# Altium schematic symbol library Project_schlib.SchLib: 21 symbols
Pins are listed as number, name and electrical type; pins without a type are passive.

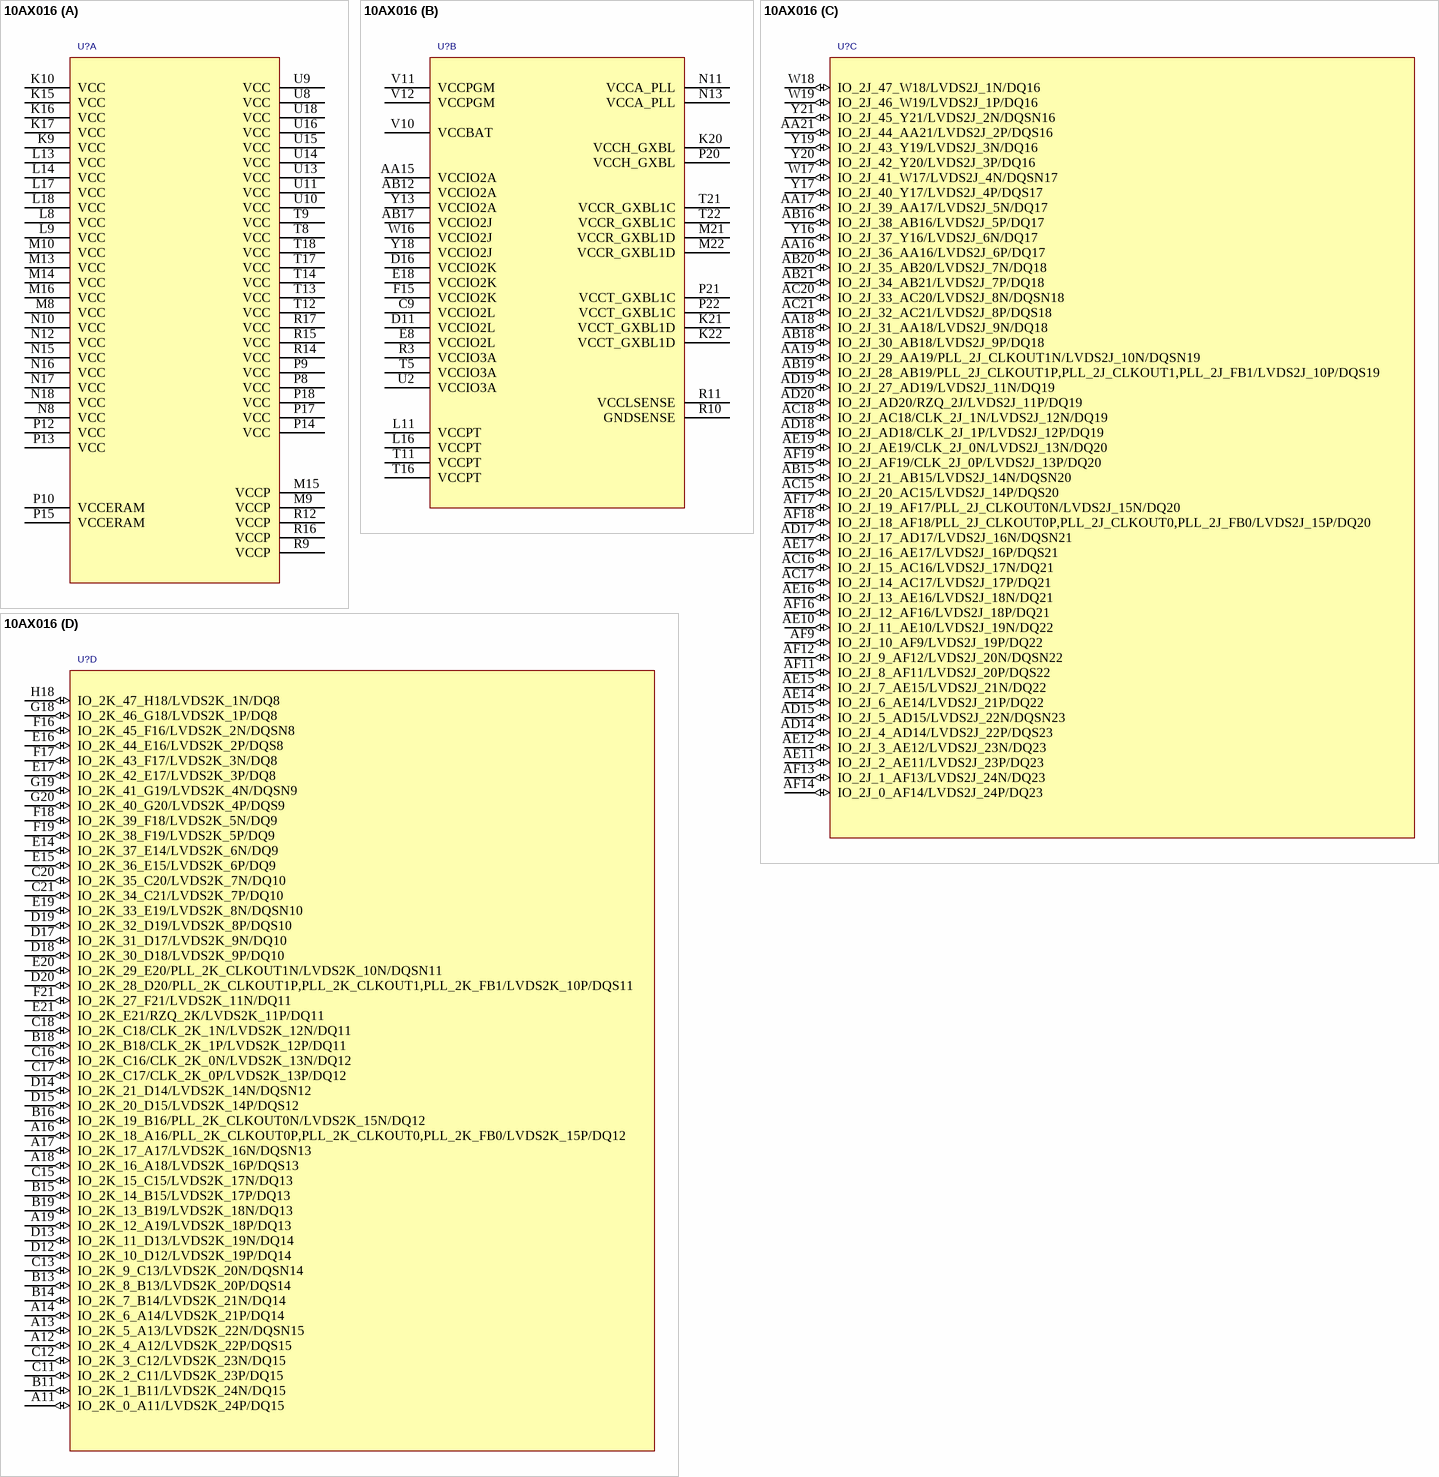
[diagram p0: symbol 10AX016]

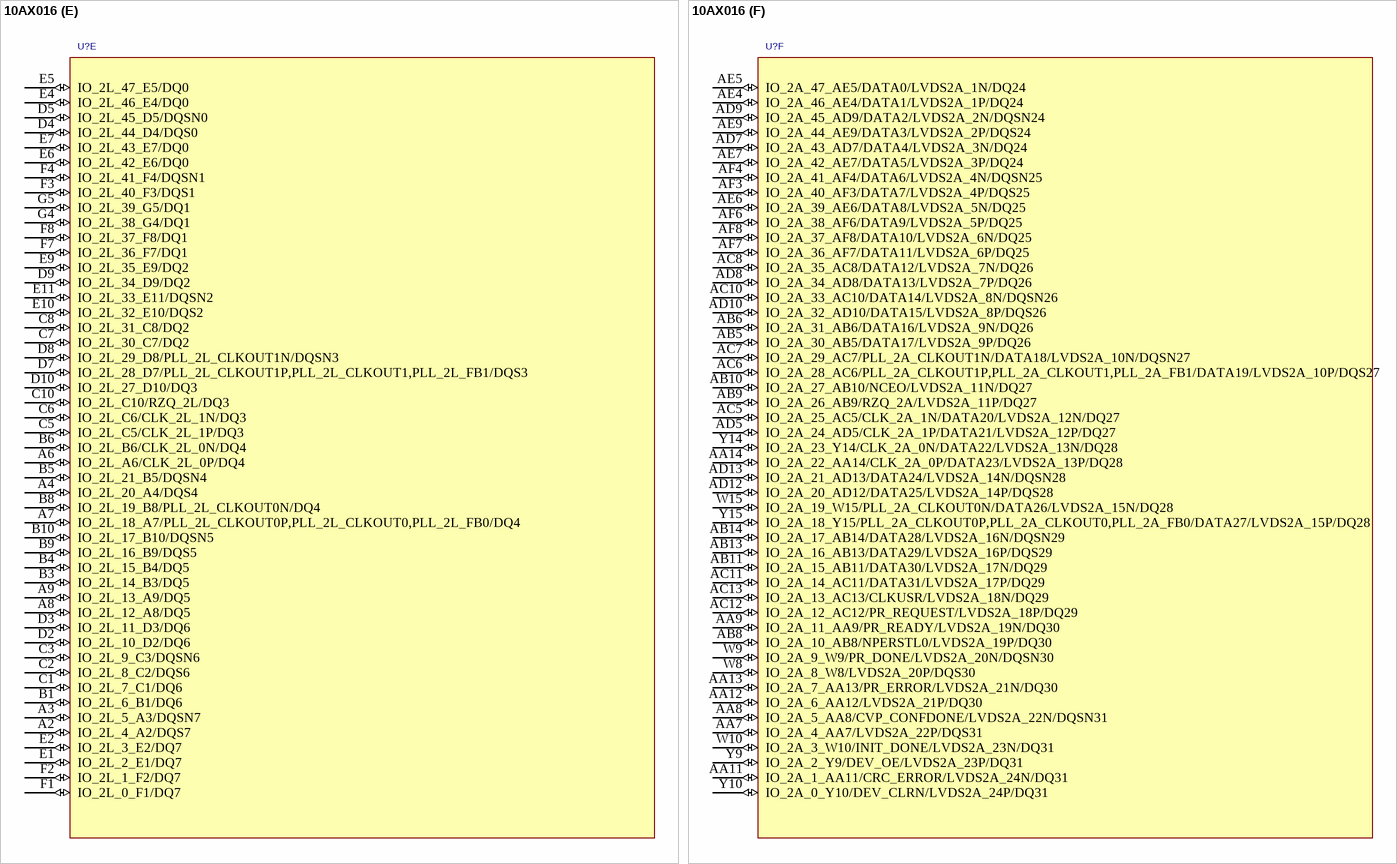
[diagram p1: symbol 10AX016]

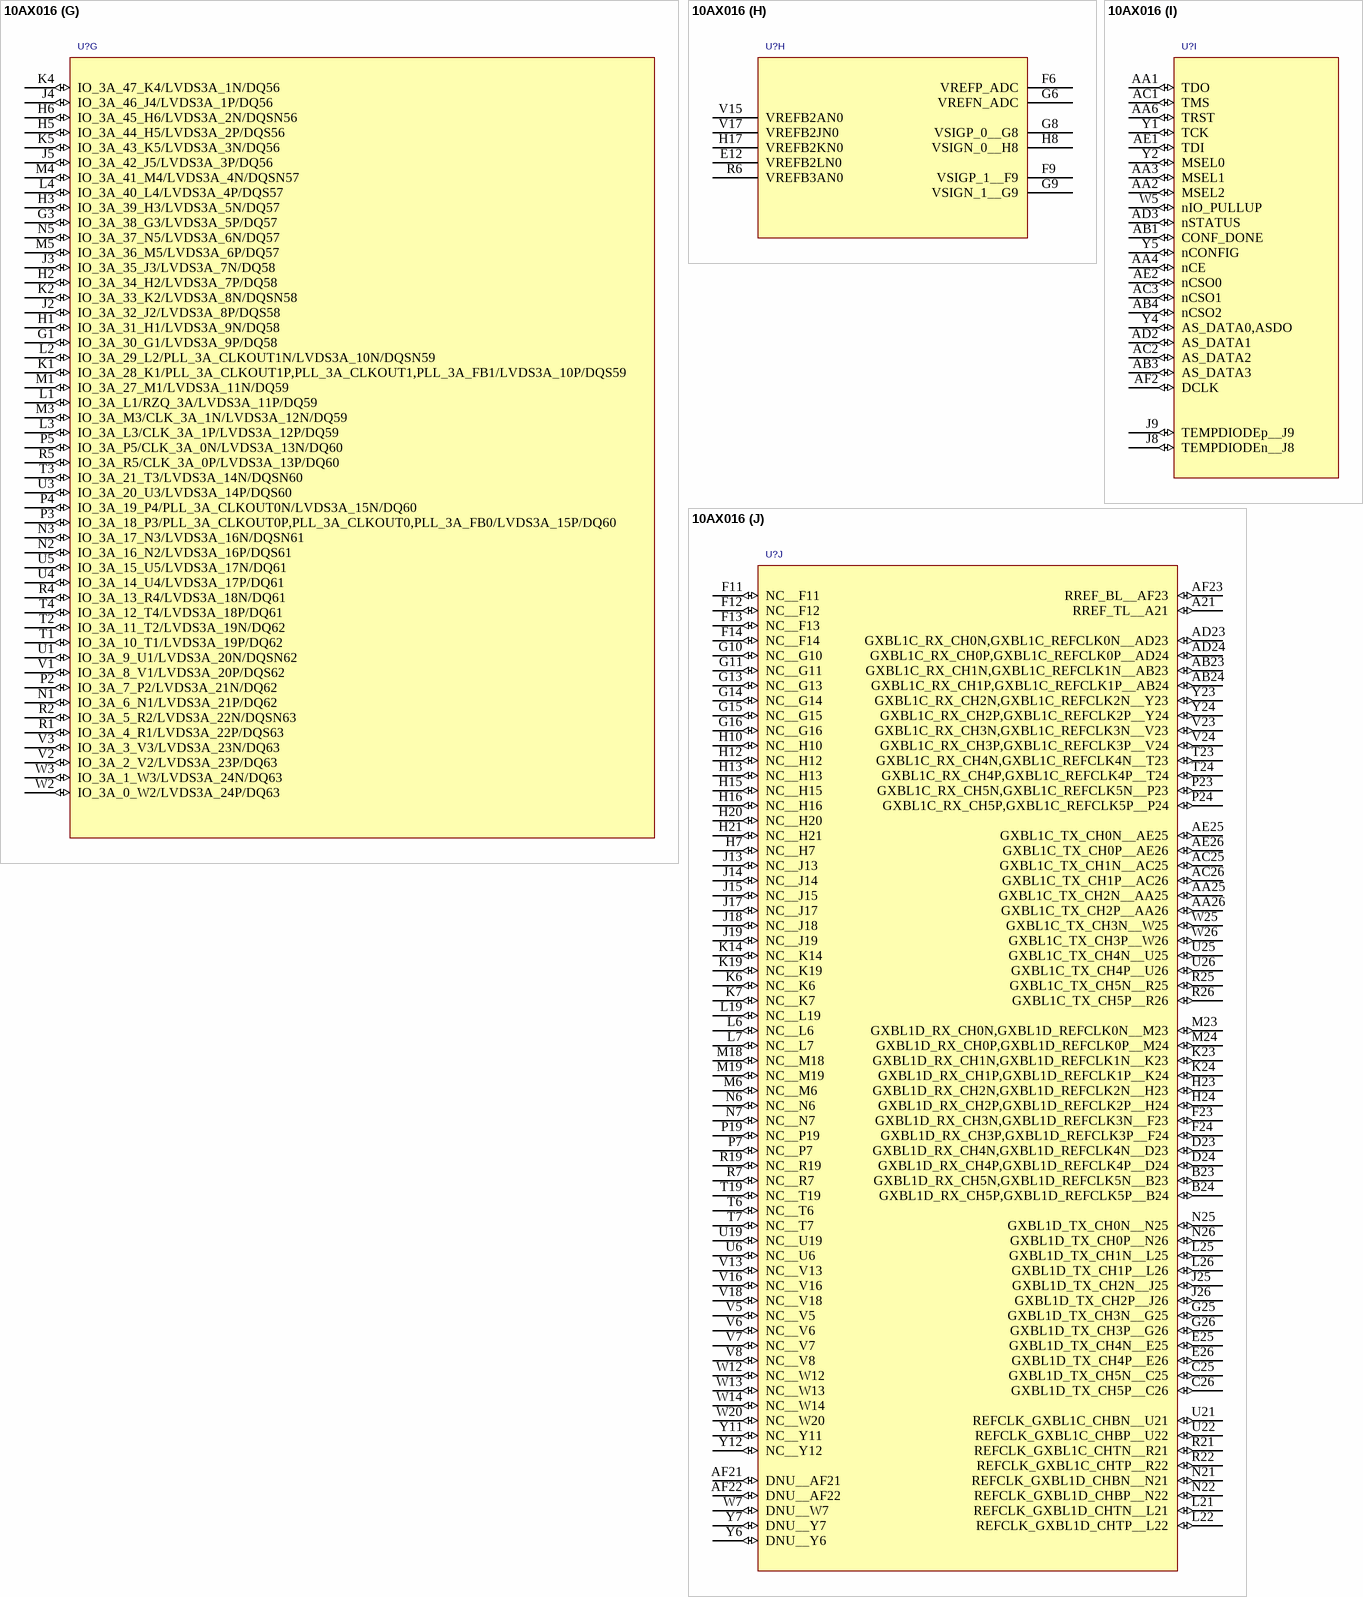
[diagram p2: symbol 10AX016]

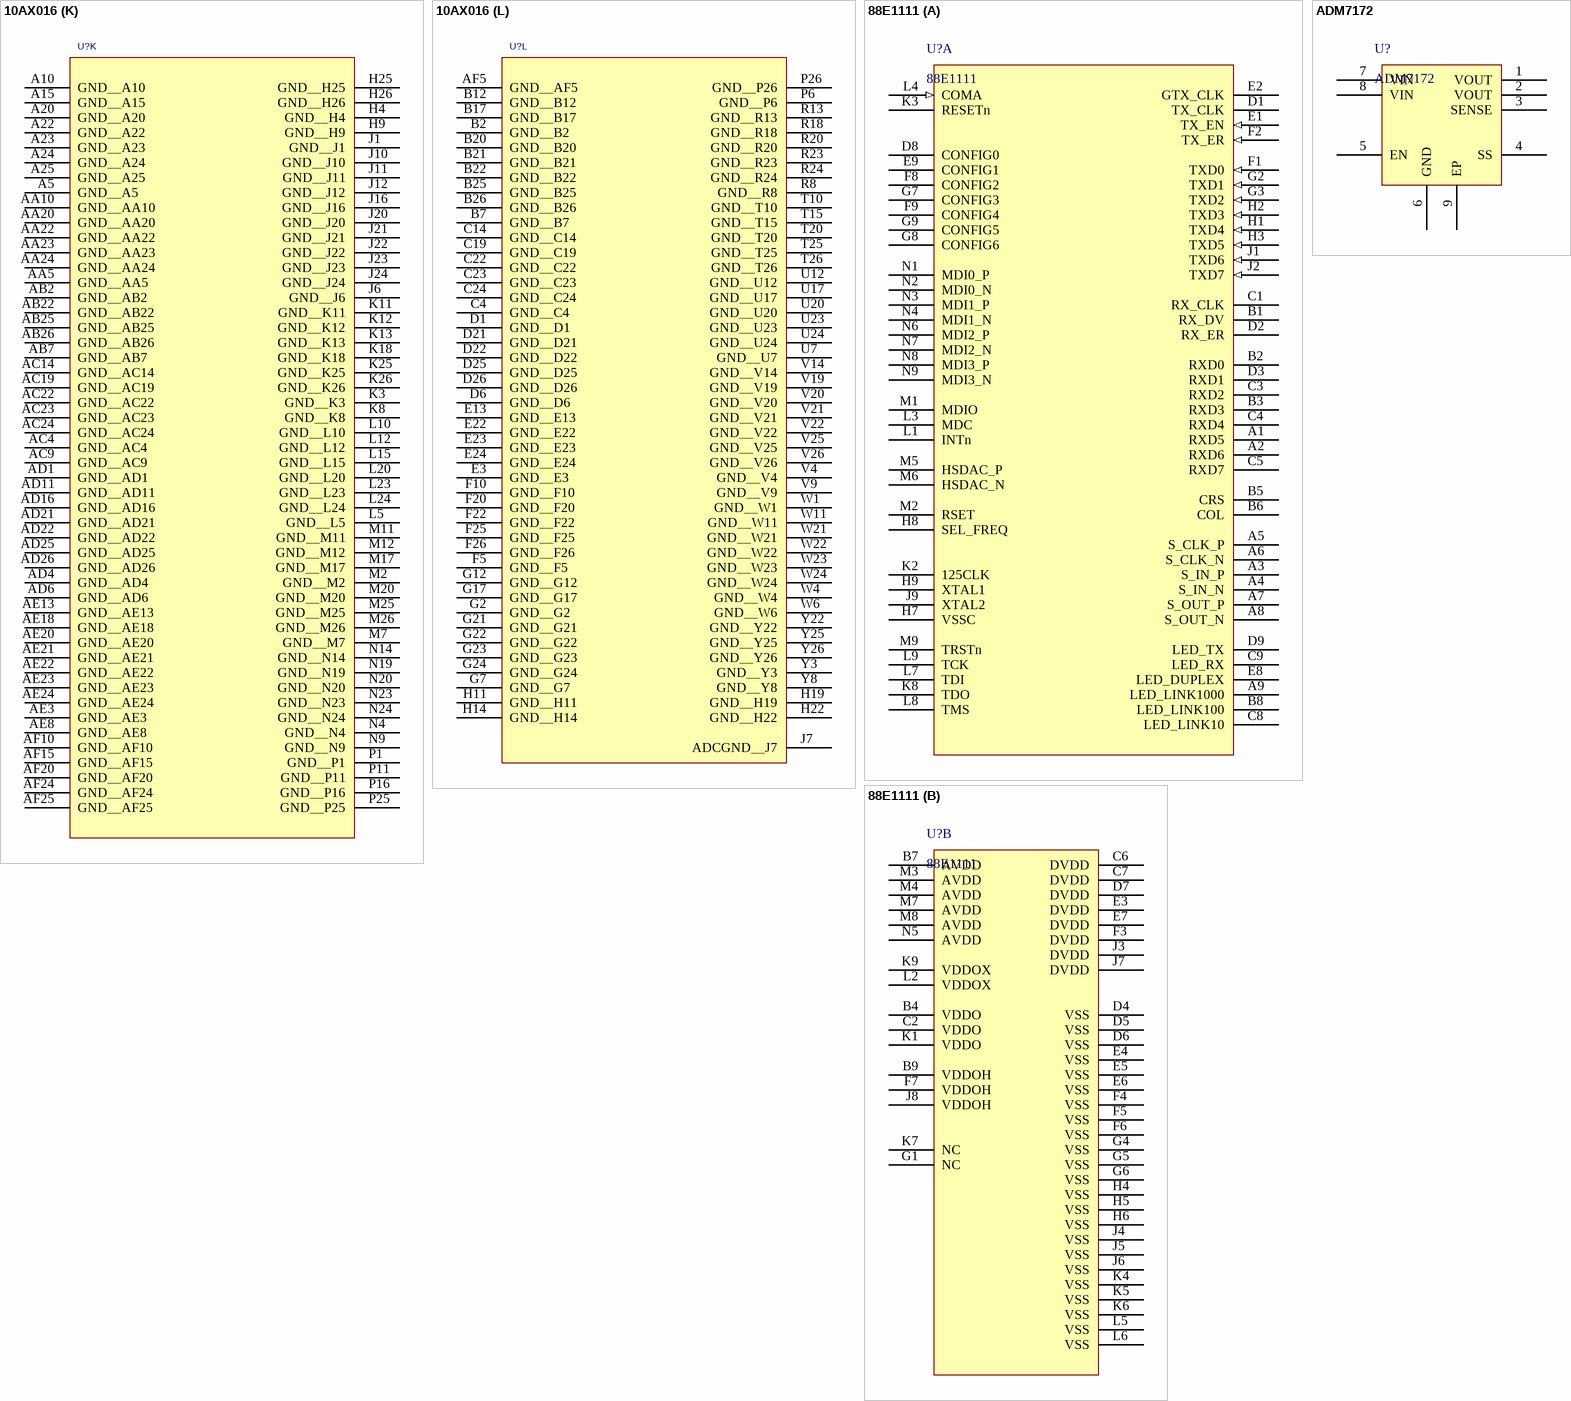
[diagram p3: symbols 10AX016 to ADM7172]

## 10AX016
designator U?, comment 10AX016 F27  (value not drawn)
Value: 10AX016 F27; Manufacturer Part Num: *
footprint FBGA672
part A pins: K9 VCC (power), K10 VCC (power), K15 VCC (power), K16 VCC (power), K17 VCC (power), L8 VCC (power), L9 VCC (power), L13 VCC (power), L14 VCC (power), L17 VCC (power), L18 VCC (power), M8 VCC (power), M9 VCCP (power), M10 VCC (power), M13 VCC (power), M14 VCC (power), M15 VCCP (power), M16 VCC (power), N8 VCC (power), N10 VCC (power), N12 VCC (power), N15 VCC (power), N16 VCC (power), N17 VCC (power), N18 VCC (power), P8 VCC (power), P9 VCC (power), P10 VCCERAM (power), P12 VCC (power), P13 VCC (power), P14 VCC (power), P15 VCCERAM (power), P17 VCC (power), P18 VCC (power), R9 VCCP (power), R12 VCCP (power), R14 VCC (power), R15 VCC (power), R16 VCCP (power), R17 VCC (power), T8 VCC (power), T9 VCC (power), T12 VCC (power), T13 VCC (power), T14 VCC (power), T17 VCC (power), T18 VCC (power), U8 VCC (power), U9 VCC (power), U10 VCC (power), U11 VCC (power), U13 VCC (power), U14 VCC (power), U15 VCC (power), U16 VCC (power), U18 VCC (power)
part B pins: AA15 VCCIO2A (power), AB12 VCCIO2A (power), AB17 VCCIO2J (power), C9 VCCIO2L (power), D11 VCCIO2L (power), D16 VCCIO2K (power), E8 VCCIO2L (power), E18 VCCIO2K (power), F15 VCCIO2K (power), K20 VCCH_GXBL (power), K21 VCCT_GXBL1D (power), K22 VCCT_GXBL1D (power), L11 VCCPT (power), L16 VCCPT (power), M21 VCCR_GXBL1D (power), M22 VCCR_GXBL1D (power), N11 VCCA_PLL (power), N13 VCCA_PLL (power), P20 VCCH_GXBL (power), P21 VCCT_GXBL1C (power), P22 VCCT_GXBL1C (power), R3 VCCIO3A (power), R10 GNDSENSE (power), R11 VCCLSENSE (power), T5 VCCIO3A (power), T11 VCCPT (power), T16 VCCPT (power), T21 VCCR_GXBL1C (power), T22 VCCR_GXBL1C (power), U2 VCCIO3A (power), V10 VCCBAT (power), V11 VCCPGM (power), V12 VCCPGM (power), W16 VCCIO2J (power), Y13 VCCIO2A (power), Y18 VCCIO2J (power)
part C pins: AA16 IO_2J_36_AA16/LVDS2J_6P/DQ17 (io), AA17 IO_2J_39_AA17/LVDS2J_5N/DQ17 (io), AA18 IO_2J_31_AA18/LVDS2J_9N/DQ18 (io), AA19 IO_2J_29_AA19/PLL_2J_CLKOUT1N/LVDS2J_10N/DQSN19 (io), AA21 IO_2J_44_AA21/LVDS2J_2P/DQS16 (io), AB15 IO_2J_21_AB15/LVDS2J_14N/DQSN20 (io), AB16 IO_2J_38_AB16/LVDS2J_5P/DQ17 (io), AB18 IO_2J_30_AB18/LVDS2J_9P/DQ18 (io), AB19 IO_2J_28_AB19/PLL_2J_CLKOUT1P,PLL_2J_CLKOUT1,PLL_2J_FB1/LVDS2J_10P/DQS19 (io), AB20 IO_2J_35_AB20/LVDS2J_7N/DQ18 (io), AB21 IO_2J_34_AB21/LVDS2J_7P/DQ18 (io), AC15 IO_2J_20_AC15/LVDS2J_14P/DQS20 (io), AC16 IO_2J_15_AC16/LVDS2J_17N/DQ21 (io), AC17 IO_2J_14_AC17/LVDS2J_17P/DQ21 (io), AC18 IO_2J_AC18/CLK_2J_1N/LVDS2J_12N/DQ19 (io), AC20 IO_2J_33_AC20/LVDS2J_8N/DQSN18 (io), AC21 IO_2J_32_AC21/LVDS2J_8P/DQS18 (io), AD14 IO_2J_4_AD14/LVDS2J_22P/DQS23 (io), AD15 IO_2J_5_AD15/LVDS2J_22N/DQSN23 (io), AD17 IO_2J_17_AD17/LVDS2J_16N/DQSN21 (io), AD18 IO_2J_AD18/CLK_2J_1P/LVDS2J_12P/DQ19 (io), AD19 IO_2J_27_AD19/LVDS2J_11N/DQ19 (io), AD20 IO_2J_AD20/RZQ_2J/LVDS2J_11P/DQ19 (io), AE10 IO_2J_11_AE10/LVDS2J_19N/DQ22 (io), AE11 IO_2J_2_AE11/LVDS2J_23P/DQ23 (io), AE12 IO_2J_3_AE12/LVDS2J_23N/DQ23 (io), AE14 IO_2J_6_AE14/LVDS2J_21P/DQ22 (io), AE15 IO_2J_7_AE15/LVDS2J_21N/DQ22 (io), AE16 IO_2J_13_AE16/LVDS2J_18N/DQ21 (io), AE17 IO_2J_16_AE17/LVDS2J_16P/DQS21 (io), AE19 IO_2J_AE19/CLK_2J_0N/LVDS2J_13N/DQ20 (io), AF9 IO_2J_10_AF9/LVDS2J_19P/DQ22 (io), AF11 IO_2J_8_AF11/LVDS2J_20P/DQS22 (io), AF12 IO_2J_9_AF12/LVDS2J_20N/DQSN22 (io), AF13 IO_2J_1_AF13/LVDS2J_24N/DQ23 (io), AF14 IO_2J_0_AF14/LVDS2J_24P/DQ23 (io), AF16 IO_2J_12_AF16/LVDS2J_18P/DQ21 (io), AF17 IO_2J_19_AF17/PLL_2J_CLKOUT0N/LVDS2J_15N/DQ20 (io), AF18 IO_2J_18_AF18/PLL_2J_CLKOUT0P,PLL_2J_CLKOUT0,PLL_2J_FB0/LVDS2J_15P/DQ20 (io), AF19 IO_2J_AF19/CLK_2J_0P/LVDS2J_13P/DQ20 (io), W17 IO_2J_41_W17/LVDS2J_4N/DQSN17 (io), W18 IO_2J_47_W18/LVDS2J_1N/DQ16 (io), W19 IO_2J_46_W19/LVDS2J_1P/DQ16 (io), Y16 IO_2J_37_Y16/LVDS2J_6N/DQ17 (io), Y17 IO_2J_40_Y17/LVDS2J_4P/DQS17 (io), Y19 IO_2J_43_Y19/LVDS2J_3N/DQ16 (io), Y20 IO_2J_42_Y20/LVDS2J_3P/DQ16 (io), Y21 IO_2J_45_Y21/LVDS2J_2N/DQSN16 (io)
part D pins: A11 IO_2K_0_A11/LVDS2K_24P/DQ15 (io), A12 IO_2K_4_A12/LVDS2K_22P/DQS15 (io), A13 IO_2K_5_A13/LVDS2K_22N/DQSN15 (io), A14 IO_2K_6_A14/LVDS2K_21P/DQ14 (io), A16 IO_2K_18_A16/PLL_2K_CLKOUT0P,PLL_2K_CLKOUT0,PLL_2K_FB0/LVDS2K_15P/DQ12 (io), A17 IO_2K_17_A17/LVDS2K_16N/DQSN13 (io), A18 IO_2K_16_A18/LVDS2K_16P/DQS13 (io), A19 IO_2K_12_A19/LVDS2K_18P/DQ13 (io), B11 IO_2K_1_B11/LVDS2K_24N/DQ15 (io), B13 IO_2K_8_B13/LVDS2K_20P/DQS14 (io), B14 IO_2K_7_B14/LVDS2K_21N/DQ14 (io), B15 IO_2K_14_B15/LVDS2K_17P/DQ13 (io), B16 IO_2K_19_B16/PLL_2K_CLKOUT0N/LVDS2K_15N/DQ12 (io), B18 IO_2K_B18/CLK_2K_1P/LVDS2K_12P/DQ11 (io), B19 IO_2K_13_B19/LVDS2K_18N/DQ13 (io), C11 IO_2K_2_C11/LVDS2K_23P/DQ15 (io), C12 IO_2K_3_C12/LVDS2K_23N/DQ15 (io), C13 IO_2K_9_C13/LVDS2K_20N/DQSN14 (io), C15 IO_2K_15_C15/LVDS2K_17N/DQ13 (io), C16 IO_2K_C16/CLK_2K_0N/LVDS2K_13N/DQ12 (io), C17 IO_2K_C17/CLK_2K_0P/LVDS2K_13P/DQ12 (io), C18 IO_2K_C18/CLK_2K_1N/LVDS2K_12N/DQ11 (io), C20 IO_2K_35_C20/LVDS2K_7N/DQ10 (io), C21 IO_2K_34_C21/LVDS2K_7P/DQ10 (io), D12 IO_2K_10_D12/LVDS2K_19P/DQ14 (io), D13 IO_2K_11_D13/LVDS2K_19N/DQ14 (io), D14 IO_2K_21_D14/LVDS2K_14N/DQSN12 (io), D15 IO_2K_20_D15/LVDS2K_14P/DQS12 (io), D17 IO_2K_31_D17/LVDS2K_9N/DQ10 (io), D18 IO_2K_30_D18/LVDS2K_9P/DQ10 (io), D19 IO_2K_32_D19/LVDS2K_8P/DQS10 (io), D20 IO_2K_28_D20/PLL_2K_CLKOUT1P,PLL_2K_CLKOUT1,PLL_2K_FB1/LVDS2K_10P/DQS11 (io), E14 IO_2K_37_E14/LVDS2K_6N/DQ9 (io), E15 IO_2K_36_E15/LVDS2K_6P/DQ9 (io), E16 IO_2K_44_E16/LVDS2K_2P/DQS8 (io), E17 IO_2K_42_E17/LVDS2K_3P/DQ8 (io), E19 IO_2K_33_E19/LVDS2K_8N/DQSN10 (io), E20 IO_2K_29_E20/PLL_2K_CLKOUT1N/LVDS2K_10N/DQSN11 (io), E21 IO_2K_E21/RZQ_2K/LVDS2K_11P/DQ11 (io), F16 IO_2K_45_F16/LVDS2K_2N/DQSN8 (io), F17 IO_2K_43_F17/LVDS2K_3N/DQ8 (io), F18 IO_2K_39_F18/LVDS2K_5N/DQ9 (io), F19 IO_2K_38_F19/LVDS2K_5P/DQ9 (io), F21 IO_2K_27_F21/LVDS2K_11N/DQ11 (io), G18 IO_2K_46_G18/LVDS2K_1P/DQ8 (io), G19 IO_2K_41_G19/LVDS2K_4N/DQSN9 (io), G20 IO_2K_40_G20/LVDS2K_4P/DQS9 (io), H18 IO_2K_47_H18/LVDS2K_1N/DQ8 (io)
part E pins: A2 IO_2L_4_A2/DQS7 (io), A3 IO_2L_5_A3/DQSN7 (io), A4 IO_2L_20_A4/DQS4 (io), A6 IO_2L_A6/CLK_2L_0P/DQ4 (io), A7 IO_2L_18_A7/PLL_2L_CLKOUT0P,PLL_2L_CLKOUT0,PLL_2L_FB0/DQ4 (io), A8 IO_2L_12_A8/DQ5 (io), A9 IO_2L_13_A9/DQ5 (io), B1 IO_2L_6_B1/DQ6 (io), B3 IO_2L_14_B3/DQ5 (io), B4 IO_2L_15_B4/DQ5 (io), B5 IO_2L_21_B5/DQSN4 (io), B6 IO_2L_B6/CLK_2L_0N/DQ4 (io), B8 IO_2L_19_B8/PLL_2L_CLKOUT0N/DQ4 (io), B9 IO_2L_16_B9/DQS5 (io), B10 IO_2L_17_B10/DQSN5 (io), C1 IO_2L_7_C1/DQ6 (io), C2 IO_2L_8_C2/DQS6 (io), C3 IO_2L_9_C3/DQSN6 (io), C5 IO_2L_C5/CLK_2L_1P/DQ3 (io), C6 IO_2L_C6/CLK_2L_1N/DQ3 (io), C7 IO_2L_30_C7/DQ2 (io), C8 IO_2L_31_C8/DQ2 (io), C10 IO_2L_C10/RZQ_2L/DQ3 (io), D2 IO_2L_10_D2/DQ6 (io), D3 IO_2L_11_D3/DQ6 (io), D4 IO_2L_44_D4/DQS0 (io), D5 IO_2L_45_D5/DQSN0 (io), D7 IO_2L_28_D7/PLL_2L_CLKOUT1P,PLL_2L_CLKOUT1,PLL_2L_FB1/DQS3 (io), D8 IO_2L_29_D8/PLL_2L_CLKOUT1N/DQSN3 (io), D9 IO_2L_34_D9/DQ2 (io), D10 IO_2L_27_D10/DQ3 (io), E1 IO_2L_2_E1/DQ7 (io), E2 IO_2L_3_E2/DQ7 (io), E4 IO_2L_46_E4/DQ0 (io), E5 IO_2L_47_E5/DQ0 (io), E6 IO_2L_42_E6/DQ0 (io), E7 IO_2L_43_E7/DQ0 (io), E9 IO_2L_35_E9/DQ2 (io), E10 IO_2L_32_E10/DQS2 (io), E11 IO_2L_33_E11/DQSN2 (io), F1 IO_2L_0_F1/DQ7 (io), F2 IO_2L_1_F2/DQ7 (io), F3 IO_2L_40_F3/DQS1 (io), F4 IO_2L_41_F4/DQSN1 (io), F7 IO_2L_36_F7/DQ1 (io), F8 IO_2L_37_F8/DQ1 (io), G4 IO_2L_38_G4/DQ1 (io), G5 IO_2L_39_G5/DQ1 (io)
part F pins: AA7 IO_2A_4_AA7/LVDS2A_22P/DQS31 (io), AA8 IO_2A_5_AA8/CVP_CONFDONE/LVDS2A_22N/DQSN31 (io), AA9 IO_2A_11_AA9/PR_READY/LVDS2A_19N/DQ30 (io), AA11 IO_2A_1_AA11/CRC_ERROR/LVDS2A_24N/DQ31 (io), AA12 IO_2A_6_AA12/LVDS2A_21P/DQ30 (io), AA13 IO_2A_7_AA13/PR_ERROR/LVDS2A_21N/DQ30 (io), AA14 IO_2A_22_AA14/CLK_2A_0P/DATA23/LVDS2A_13P/DQ28 (io), AB5 IO_2A_30_AB5/DATA17/LVDS2A_9P/DQ26 (io), AB6 IO_2A_31_AB6/DATA16/LVDS2A_9N/DQ26 (io), AB8 IO_2A_10_AB8/NPERSTL0/LVDS2A_19P/DQ30 (io), AB9 IO_2A_26_AB9/RZQ_2A/LVDS2A_11P/DQ27 (io), AB10 IO_2A_27_AB10/NCEO/LVDS2A_11N/DQ27 (io), AB11 IO_2A_15_AB11/DATA30/LVDS2A_17N/DQ29 (io), AB13 IO_2A_16_AB13/DATA29/LVDS2A_16P/DQS29 (io), AB14 IO_2A_17_AB14/DATA28/LVDS2A_16N/DQSN29 (io), AC5 IO_2A_25_AC5/CLK_2A_1N/DATA20/LVDS2A_12N/DQ27 (io), AC6 IO_2A_28_AC6/PLL_2A_CLKOUT1P,PLL_2A_CLKOUT1,PLL_2A_FB1/DATA19/LVDS2A_10P/DQS27 (io), AC7 IO_2A_29_AC7/PLL_2A_CLKOUT1N/DATA18/LVDS2A_10N/DQSN27 (io), AC8 IO_2A_35_AC8/DATA12/LVDS2A_7N/DQ26 (io), AC10 IO_2A_33_AC10/DATA14/LVDS2A_8N/DQSN26 (io), AC11 IO_2A_14_AC11/DATA31/LVDS2A_17P/DQ29 (io), AC12 IO_2A_12_AC12/PR_REQUEST/LVDS2A_18P/DQ29 (io), AC13 IO_2A_13_AC13/CLKUSR/LVDS2A_18N/DQ29 (io), AD5 IO_2A_24_AD5/CLK_2A_1P/DATA21/LVDS2A_12P/DQ27 (io), AD7 IO_2A_43_AD7/DATA4/LVDS2A_3N/DQ24 (io), AD8 IO_2A_34_AD8/DATA13/LVDS2A_7P/DQ26 (io), AD9 IO_2A_45_AD9/DATA2/LVDS2A_2N/DQSN24 (io), AD10 IO_2A_32_AD10/DATA15/LVDS2A_8P/DQS26 (io), AD12 IO_2A_20_AD12/DATA25/LVDS2A_14P/DQS28 (io), AD13 IO_2A_21_AD13/DATA24/LVDS2A_14N/DQSN28 (io), AE4 IO_2A_46_AE4/DATA1/LVDS2A_1P/DQ24 (io), AE5 IO_2A_47_AE5/DATA0/LVDS2A_1N/DQ24 (io), AE6 IO_2A_39_AE6/DATA8/LVDS2A_5N/DQ25 (io), AE7 IO_2A_42_AE7/DATA5/LVDS2A_3P/DQ24 (io), AE9 IO_2A_44_AE9/DATA3/LVDS2A_2P/DQS24 (io), AF3 IO_2A_40_AF3/DATA7/LVDS2A_4P/DQS25 (io), AF4 IO_2A_41_AF4/DATA6/LVDS2A_4N/DQSN25 (io), AF6 IO_2A_38_AF6/DATA9/LVDS2A_5P/DQ25 (io), AF7 IO_2A_36_AF7/DATA11/LVDS2A_6P/DQ25 (io), AF8 IO_2A_37_AF8/DATA10/LVDS2A_6N/DQ25 (io), W8 IO_2A_8_W8/LVDS2A_20P/DQS30 (io), W9 IO_2A_9_W9/PR_DONE/LVDS2A_20N/DQSN30 (io), W10 IO_2A_3_W10/INIT_DONE/LVDS2A_23N/DQ31 (io), W15 IO_2A_19_W15/PLL_2A_CLKOUT0N/DATA26/LVDS2A_15N/DQ28 (io), Y9 IO_2A_2_Y9/DEV_OE/LVDS2A_23P/DQ31 (io), Y10 IO_2A_0_Y10/DEV_CLRN/LVDS2A_24P/DQ31 (io), Y14 IO_2A_23_Y14/CLK_2A_0N/DATA22/LVDS2A_13N/DQ28 (io), Y15 IO_2A_18_Y15/PLL_2A_CLKOUT0P,PLL_2A_CLKOUT0,PLL_2A_FB0/DATA27/LVDS2A_15P/DQ28 (io)
part G pins: G1 IO_3A_30_G1/LVDS3A_9P/DQ58 (io), G3 IO_3A_38_G3/LVDS3A_5P/DQ57 (io), H1 IO_3A_31_H1/LVDS3A_9N/DQ58 (io), H2 IO_3A_34_H2/LVDS3A_7P/DQ58 (io), H3 IO_3A_39_H3/LVDS3A_5N/DQ57 (io), H5 IO_3A_44_H5/LVDS3A_2P/DQS56 (io), H6 IO_3A_45_H6/LVDS3A_2N/DQSN56 (io), J2 IO_3A_32_J2/LVDS3A_8P/DQS58 (io), J3 IO_3A_35_J3/LVDS3A_7N/DQ58 (io), J4 IO_3A_46_J4/LVDS3A_1P/DQ56 (io), J5 IO_3A_42_J5/LVDS3A_3P/DQ56 (io), K1 IO_3A_28_K1/PLL_3A_CLKOUT1P,PLL_3A_CLKOUT1,PLL_3A_FB1/LVDS3A_10P/DQS59 (io), K2 IO_3A_33_K2/LVDS3A_8N/DQSN58 (io), K4 IO_3A_47_K4/LVDS3A_1N/DQ56 (io), K5 IO_3A_43_K5/LVDS3A_3N/DQ56 (io), L1 IO_3A_L1/RZQ_3A/LVDS3A_11P/DQ59 (io), L2 IO_3A_29_L2/PLL_3A_CLKOUT1N/LVDS3A_10N/DQSN59 (io), L3 IO_3A_L3/CLK_3A_1P/LVDS3A_12P/DQ59 (io), L4 IO_3A_40_L4/LVDS3A_4P/DQS57 (io), M1 IO_3A_27_M1/LVDS3A_11N/DQ59 (io), M3 IO_3A_M3/CLK_3A_1N/LVDS3A_12N/DQ59 (io), M4 IO_3A_41_M4/LVDS3A_4N/DQSN57 (io), M5 IO_3A_36_M5/LVDS3A_6P/DQ57 (io), N1 IO_3A_6_N1/LVDS3A_21P/DQ62 (io), N2 IO_3A_16_N2/LVDS3A_16P/DQS61 (io), N3 IO_3A_17_N3/LVDS3A_16N/DQSN61 (io), N5 IO_3A_37_N5/LVDS3A_6N/DQ57 (io), P2 IO_3A_7_P2/LVDS3A_21N/DQ62 (io), P3 IO_3A_18_P3/PLL_3A_CLKOUT0P,PLL_3A_CLKOUT0,PLL_3A_FB0/LVDS3A_15P/DQ60 (io), P4 IO_3A_19_P4/PLL_3A_CLKOUT0N/LVDS3A_15N/DQ60 (io), P5 IO_3A_P5/CLK_3A_0N/LVDS3A_13N/DQ60 (io), R1 IO_3A_4_R1/LVDS3A_22P/DQS63 (io), R2 IO_3A_5_R2/LVDS3A_22N/DQSN63 (io), R4 IO_3A_13_R4/LVDS3A_18N/DQ61 (io), R5 IO_3A_R5/CLK_3A_0P/LVDS3A_13P/DQ60 (io), T1 IO_3A_10_T1/LVDS3A_19P/DQ62 (io), T2 IO_3A_11_T2/LVDS3A_19N/DQ62 (io), T3 IO_3A_21_T3/LVDS3A_14N/DQSN60 (io), T4 IO_3A_12_T4/LVDS3A_18P/DQ61 (io), U1 IO_3A_9_U1/LVDS3A_20N/DQSN62 (io), U3 IO_3A_20_U3/LVDS3A_14P/DQS60 (io), U4 IO_3A_14_U4/LVDS3A_17P/DQ61 (io), U5 IO_3A_15_U5/LVDS3A_17N/DQ61 (io), V1 IO_3A_8_V1/LVDS3A_20P/DQS62 (io), V2 IO_3A_2_V2/LVDS3A_23P/DQ63 (io), V3 IO_3A_3_V3/LVDS3A_23N/DQ63 (io), W2 IO_3A_0_W2/LVDS3A_24P/DQ63 (io), W3 IO_3A_1_W3/LVDS3A_24N/DQ63 (io)
part H pins: E12 VREFB2LN0 (power), F6 VREFP_ADC (power), F9 VSIGP_1__F9, G6 VREFN_ADC (power), G8 VSIGP_0__G8, G9 VSIGN_1__G9, H8 VSIGN_0__H8, H17 VREFB2KN0 (power), R6 VREFB3AN0 (power), V15 VREFB2AN0 (power), V17 VREFB2JN0 (power)
part I pins: AA1 TDO (io), AA2 MSEL2 (io), AA3 MSEL1 (io), AA4 nCE (io), AA6 TRST (io), AB1 CONF_DONE (io), AB3 AS_DATA3 (io), AB4 nCSO2 (io), AC1 TMS (io), AC2 AS_DATA2 (io), AC3 nCSO1 (io), AD2 AS_DATA1 (io), AD3 nSTATUS (io), AE1 TDI (io), AE2 nCSO0 (io), AF2 DCLK (io), J8 TEMPDIODEn__J8 (io), J9 TEMPDIODEp__J9 (io), W5 nIO_PULLUP (io), Y1 TCK (io), Y2 MSEL0 (io), Y4 AS_DATA0,ASDO (io), Y5 nCONFIG (io)
part J pins: A21 RREF_TL__A21 (io), AA25 GXBL1C_TX_CH2N__AA25 (io), AA26 GXBL1C_TX_CH2P__AA26 (io), AB23 GXBL1C_RX_CH1N,GXBL1C_REFCLK1N__AB23 (io), AB24 GXBL1C_RX_CH1P,GXBL1C_REFCLK1P__AB24 (io), AC25 GXBL1C_TX_CH1N__AC25 (io), AC26 GXBL1C_TX_CH1P__AC26 (io), AD23 GXBL1C_RX_CH0N,GXBL1C_REFCLK0N__AD23 (io), AD24 GXBL1C_RX_CH0P,GXBL1C_REFCLK0P__AD24 (io), AE25 GXBL1C_TX_CH0N__AE25 (io), AE26 GXBL1C_TX_CH0P__AE26 (io), AF21 DNU__AF21 (io), AF22 DNU__AF22 (io), AF23 RREF_BL__AF23 (io), B23 GXBL1D_RX_CH5N,GXBL1D_REFCLK5N__B23 (io), B24 GXBL1D_RX_CH5P,GXBL1D_REFCLK5P__B24 (io), C25 GXBL1D_TX_CH5N__C25 (io), C26 GXBL1D_TX_CH5P__C26 (io), D23 GXBL1D_RX_CH4N,GXBL1D_REFCLK4N__D23 (io), D24 GXBL1D_RX_CH4P,GXBL1D_REFCLK4P__D24 (io), E25 GXBL1D_TX_CH4N__E25 (io), E26 GXBL1D_TX_CH4P__E26 (io), F11 NC__F11 (io), F12 NC__F12 (io), F13 NC__F13 (io), F14 NC__F14 (io), F23 GXBL1D_RX_CH3N,GXBL1D_REFCLK3N__F23 (io), F24 GXBL1D_RX_CH3P,GXBL1D_REFCLK3P__F24 (io), G10 NC__G10 (io), G11 NC__G11 (io), G13 NC__G13 (io), G14 NC__G14 (io), G15 NC__G15 (io), G16 NC__G16 (io), G25 GXBL1D_TX_CH3N__G25 (io), G26 GXBL1D_TX_CH3P__G26 (io), H7 NC__H7 (io), H10 NC__H10 (io), H12 NC__H12 (io), H13 NC__H13 (io), H15 NC__H15 (io), H16 NC__H16 (io), H20 NC__H20 (io), H21 NC__H21 (io), H23 GXBL1D_RX_CH2N,GXBL1D_REFCLK2N__H23 (io), H24 GXBL1D_RX_CH2P,GXBL1D_REFCLK2P__H24 (io), J13 NC__J13 (io), J14 NC__J14 (io), J15 NC__J15 (io), J17 NC__J17 (io), J18 NC__J18 (io), J19 NC__J19 (io), J25 GXBL1D_TX_CH2N__J25 (io), J26 GXBL1D_TX_CH2P__J26 (io), K6 NC__K6 (io), K7 NC__K7 (io), K14 NC__K14 (io), K19 NC__K19 (io), K23 GXBL1D_RX_CH1N,GXBL1D_REFCLK1N__K23 (io), K24 GXBL1D_RX_CH1P,GXBL1D_REFCLK1P__K24 (io), L6 NC__L6 (io), L7 NC__L7 (io), L19 NC__L19 (io), L21 REFCLK_GXBL1D_CHTN__L21 (io), L22 REFCLK_GXBL1D_CHTP__L22 (io), L25 GXBL1D_TX_CH1N__L25 (io), L26 GXBL1D_TX_CH1P__L26 (io), M6 NC__M6 (io), M18 NC__M18 (io), M19 NC__M19 (io), M23 GXBL1D_RX_CH0N,GXBL1D_REFCLK0N__M23 (io), M24 GXBL1D_RX_CH0P,GXBL1D_REFCLK0P__M24 (io), N6 NC__N6 (io), N7 NC__N7 (io), N21 REFCLK_GXBL1D_CHBN__N21 (io), N22 REFCLK_GXBL1D_CHBP__N22 (io), N25 GXBL1D_TX_CH0N__N25 (io), N26 GXBL1D_TX_CH0P__N26 (io), P7 NC__P7 (io), P19 NC__P19 (io), P23 GXBL1C_RX_CH5N,GXBL1C_REFCLK5N__P23 (io), P24 GXBL1C_RX_CH5P,GXBL1C_REFCLK5P__P24 (io), R7 NC__R7 (io), R19 NC__R19 (io), R21 REFCLK_GXBL1C_CHTN__R21 (io), R22 REFCLK_GXBL1C_CHTP__R22 (io), R25 GXBL1C_TX_CH5N__R25 (io), R26 GXBL1C_TX_CH5P__R26 (io), T6 NC__T6 (io), T7 NC__T7 (io), T19 NC__T19 (io), T23 GXBL1C_RX_CH4N,GXBL1C_REFCLK4N__T23 (io), T24 GXBL1C_RX_CH4P,GXBL1C_REFCLK4P__T24 (io), U6 NC__U6 (io), U19 NC__U19 (io), U21 REFCLK_GXBL1C_CHBN__U21 (io), U22 REFCLK_GXBL1C_CHBP__U22 (io), U25 GXBL1C_TX_CH4N__U25 (io), U26 GXBL1C_TX_CH4P__U26 (io), V5 NC__V5 (io), V6 NC__V6 (io), V7 NC__V7 (io), V8 NC__V8 (io), V13 NC__V13 (io), V16 NC__V16 (io), V18 NC__V18 (io), V23 GXBL1C_RX_CH3N,GXBL1C_REFCLK3N__V23 (io), V24 GXBL1C_RX_CH3P,GXBL1C_REFCLK3P__V24 (io), W7 DNU__W7 (io), W12 NC__W12 (io), W13 NC__W13 (io), W14 NC__W14 (io), W20 NC__W20 (io), W25 GXBL1C_TX_CH3N__W25 (io), W26 GXBL1C_TX_CH3P__W26 (io), Y6 DNU__Y6 (io), Y7 DNU__Y7 (io), Y11 NC__Y11 (io), Y12 NC__Y12 (io), Y23 GXBL1C_RX_CH2N,GXBL1C_REFCLK2N__Y23 (io), Y24 GXBL1C_RX_CH2P,GXBL1C_REFCLK2P__Y24 (io)
part K pins: A5 GND__A5 (power), A10 GND__A10 (power), A15 GND__A15 (power), A20 GND__A20 (power), A22 GND__A22 (power), A23 GND__A23 (power), A24 GND__A24 (power), A25 GND__A25 (power), AA5 GND__AA5 (power), AA10 GND__AA10 (power), AA20 GND__AA20 (power), AA22 GND__AA22 (power), AA23 GND__AA23 (power), AA24 GND__AA24 (power), AB2 GND__AB2 (power), AB7 GND__AB7 (power), AB22 GND__AB22 (power), AB25 GND__AB25 (power), AB26 GND__AB26 (power), AC4 GND__AC4 (power), AC9 GND__AC9 (power), AC14 GND__AC14 (power), AC19 GND__AC19 (power), AC22 GND__AC22 (power), AC23 GND__AC23 (power), AC24 GND__AC24 (power), AD1 GND__AD1 (power), AD4 GND__AD4 (power), AD6 GND__AD6 (power), AD11 GND__AD11 (power), AD16 GND__AD16 (power), AD21 GND__AD21 (power), AD22 GND__AD22 (power), AD25 GND__AD25 (power), AD26 GND__AD26 (power), AE3 GND__AE3 (power), AE8 GND__AE8 (power), AE13 GND__AE13 (power), AE18 GND__AE18 (power), AE20 GND__AE20 (power), AE21 GND__AE21 (power), AE22 GND__AE22 (power), AE23 GND__AE23 (power), AE24 GND__AE24 (power), AF10 GND__AF10 (power), AF15 GND__AF15 (power), AF20 GND__AF20 (power), AF24 GND__AF24 (power), AF25 GND__AF25 (power), H4 GND__H4 (power), H9 GND__H9 (power), H25 GND__H25 (power), H26 GND__H26 (power), J1 GND__J1 (power), J6 GND__J6 (power), J10 GND__J10 (power), J11 GND__J11 (power), J12 GND__J12 (power), J16 GND__J16 (power), J20 GND__J20 (power), J21 GND__J21 (power), J22 GND__J22 (power), J23 GND__J23 (power), J24 GND__J24 (power), K3 GND__K3 (power), K8 GND__K8 (power), K11 GND__K11 (power), K12 GND__K12 (power), K13 GND__K13 (power), K18 GND__K18 (power), K25 GND__K25 (power), K26 GND__K26 (power), L5 GND__L5 (power), L10 GND__L10 (power), L12 GND__L12 (power), L15 GND__L15 (power), L20 GND__L20 (power), L23 GND__L23 (power), L24 GND__L24 (power), M2 GND__M2 (power), M7 GND__M7 (power), M11 GND__M11 (power), M12 GND__M12 (power), M17 GND__M17 (power), M20 GND__M20 (power), M25 GND__M25 (power), M26 GND__M26 (power), N4 GND__N4 (power), N9 GND__N9 (power), N14 GND__N14 (power), N19 GND__N19 (power), N20 GND__N20 (power), N23 GND__N23 (power), N24 GND__N24 (power), P1 GND__P1 (power), P11 GND__P11 (power), P16 GND__P16 (power), P25 GND__P25 (power)
part L pins: AF5 GND__AF5 (power), B2 GND__B2 (power), B7 GND__B7 (power), B12 GND__B12 (power), B17 GND__B17 (power), B20 GND__B20 (power), B21 GND__B21 (power), B22 GND__B22 (power), B25 GND__B25 (power), B26 GND__B26 (power), C4 GND__C4 (power), C14 GND__C14 (power), C19 GND__C19 (power), C22 GND__C22 (power), C23 GND__C23 (power), C24 GND__C24 (power), D1 GND__D1 (power), D6 GND__D6 (power), D21 GND__D21 (power), D22 GND__D22 (power), D25 GND__D25 (power), D26 GND__D26 (power), E3 GND__E3 (power), E13 GND__E13 (power), E22 GND__E22 (power), E23 GND__E23 (power), E24 GND__E24 (power), F5 GND__F5 (power), F10 GND__F10 (power), F20 GND__F20 (power), F22 GND__F22 (power), F25 GND__F25 (power), F26 GND__F26 (power), G2 GND__G2 (power), G7 GND__G7 (power), G12 GND__G12 (power), G17 GND__G17 (power), G21 GND__G21 (power), G22 GND__G22 (power), G23 GND__G23 (power), G24 GND__G24 (power), H11 GND__H11 (power), H14 GND__H14 (power), H19 GND__H19 (power), H22 GND__H22 (power), J7 ADCGND__J7 (power), P6 GND__P6 (power), P26 GND__P26 (power), R8 GND__R8 (power), R13 GND__R13 (power), R18 GND__R18 (power), R20 GND__R20 (power), R23 GND__R23 (power), R24 GND__R24 (power), T10 GND__T10 (power), T15 GND__T15 (power), T20 GND__T20 (power), T25 GND__T25 (power), T26 GND__T26 (power), U7 GND__U7 (power), U12 GND__U12 (power), U17 GND__U17 (power), U20 GND__U20 (power), U23 GND__U23 (power), U24 GND__U24 (power), V4 GND__V4 (power), V9 GND__V9 (power), V14 GND__V14 (power), V19 GND__V19 (power), V20 GND__V20 (power), V21 GND__V21 (power), V22 GND__V22 (power), V25 GND__V25 (power), V26 GND__V26 (power), W1 GND__W1 (power), W4 GND__W4 (power), W6 GND__W6 (power), W11 GND__W11 (power), W21 GND__W21 (power), W22 GND__W22 (power), W23 GND__W23 (power), W24 GND__W24 (power), Y3 GND__Y3 (power), Y8 GND__Y8 (power), Y22 GND__Y22 (power), Y25 GND__Y25 (power), Y26 GND__Y26 (power)

## 88E1111
designator U?
Integrated 10/100/1000 Ultra Gigabit Ethernet Transceiver; Value: 88E1111; Manufacturer Part Num: *
part A pins: A1 RXD5, A2 RXD6, A3 S_IN_P, A4 S_IN_N, A5 S_CLK_P, A6 S_CLK_N, A7 S_OUT_P, A8 S_OUT_N, A9 LED_LINK1000, B1 RX_DV, B2 RXD0, B3 RXD3, B5 CRS, B6 COL, B8 LED_LINK100, C1 RX_CLK, C3 RXD2, C4 RXD4, C5 RXD7, C8 LED_LINK10, C9 LED_RX, D1 TX_CLK, D2 RX_ER, D3 RXD1, D8 CONFIG0, D9 LED_TX, E1 TX_EN (in), E2 GTX_CLK, E8 LED_DUPLEX, E9 CONFIG1, F1 TXD0 (in), F2 TX_ER (in), F8 CONFIG2, F9 CONFIG4, G2 TXD1 (in), G3 TXD2 (in), G7 CONFIG3, G8 CONFIG6, G9 CONFIG5, H1 TXD4 (in), H2 TXD3 (in), H3 TXD5 (in), H7 VSSC, H8 SEL_FREQ, H9 XTAL1, J1 TXD6 (in), J2 TXD7 (in), J9 XTAL2, K2 125CLK, K3 RESETn, K8 TDO, L1 INTn, L3 MDC, L4 COMA (in), L7 TDI, L8 TMS, L9 TCK, M1 MDIO, M2 RSET, M5 HSDAC_P, M6 HSDAC_N, M9 TRSTn, N1 MDI0_P, N2 MDI0_N, N3 MDI1_P, N4 MDI1_N, N6 MDI2_P, N7 MDI2_N, N8 MDI3_P, N9 MDI3_N
part B pins: B4 VDDO (power), B7 AVDD (power), B9 VDDOH (power), C2 VDDO (power), C6 DVDD (power), C7 DVDD (power), D4 VSS (power), D5 VSS (power), D6 VSS (power), D7 DVDD (power), E3 DVDD (power), E4 VSS (power), E5 VSS (power), E6 VSS (power), E7 DVDD (power), F3 DVDD (power), F4 VSS (power), F5 VSS (power), F6 VSS (power), F7 VDDOH (power), G1 NC (power), G4 VSS (power), G5 VSS (power), G6 VSS (power), H4 VSS (power), H5 VSS (power), H6 VSS (power), J3 DVDD (power), J4 VSS (power), J5 VSS (power), J6 VSS (power), J7 DVDD (power), J8 VDDOH (power), K1 VDDO (power), K4 VSS (power), K5 VSS (power), K6 VSS (power), K7 NC (power), K9 VDDOX (power), L2 VDDOX (power), L5 VSS (power), L6 VSS (power), M3 AVDD (power), M4 AVDD (power), M7 AVDD (power), M8 AVDD (power), N5 AVDD (power)

## ADM7172
designator U?
6.5 V, 2 A, Ultralow Noise, High PSRR, Fast Transient Response CMOS LDO; Value: ADM7172; Manufacturer Part Num: *
pins: 1 VOUT (power), 2 VOUT (power), 3 SENSE (power), 4 SS, 5 EN, 6 GND (power), 7 VIN (power), 8 VIN (power), 9 EP (power)

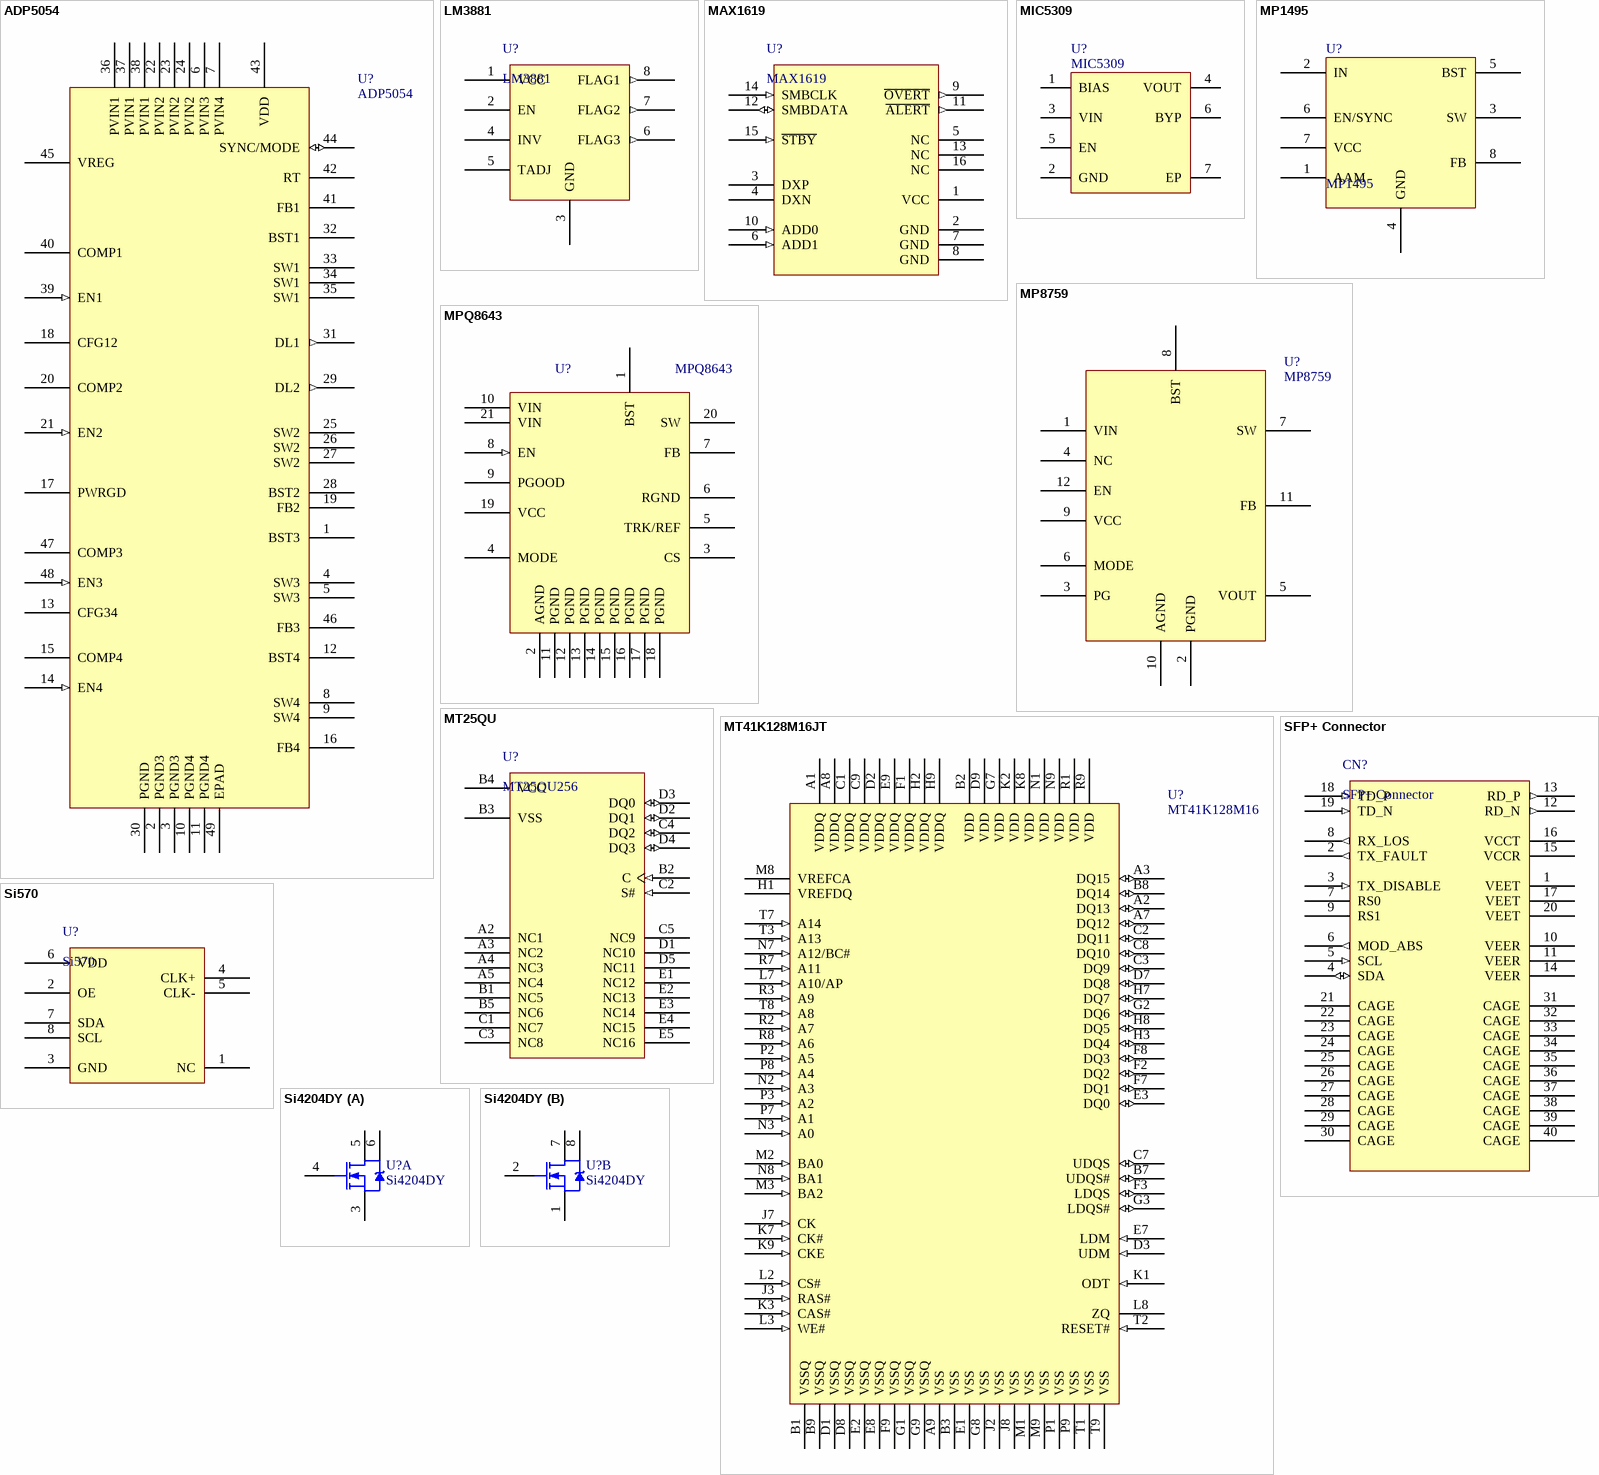
[diagram p4: symbols ADP5054 to Si4204DY]

## ADP5054
designator U?
Quad Buck Regulator Integrated Power Solution; Manufacturer Part Num: ADP5054ACPZ-R7; Value: ADP5054
pins: 1 BST3, 2 PGND3 (power), 3 PGND3 (power), 4 SW3, 5 SW3, 6 PVIN3 (power), 7 PVIN4 (power), 8 SW4, 9 SW4, 10 PGND4 (power), 11 PGND4 (power), 12 BST4, 13 CFG34, 14 EN4 (in), 15 COMP4, 16 FB4, 17 PWRGD, 18 CFG12, 19 FB2, 20 COMP2, 21 EN2 (in), 22 PVIN2 (power), 23 PVIN2 (power), 24 PVIN2 (power), 25 SW2, 26 SW2, 27 SW2, 28 BST2, 29 DL2 (out), 30 PGND (power), 31 DL1 (out), 32 BST1, 33 SW1, 34 SW1, 35 SW1, 36 PVIN1 (power), 37 PVIN1 (power), 38 PVIN1 (power), 39 EN1 (in), 40 COMP1, 41 FB1, 42 RT, 43 VDD, 44 SYNC/MODE (io), 45 VREG, 46 FB3, 47 COMP3, 48 EN3 (in), 49 EPAD (power)

## LM3881
designator U?
Simple Power Sequencer With Adjustable Timing; Value: LM3881; Manufacturer Part Num: *
pins: 1 VCC (power), 2 EN, 3 GND (power), 4 INV, 5 TADJ, 6 FLAG3 (out), 7 FLAG2 (out), 8 FLAG1 (out)

## MAX1619
designator U?
Remote/Local Temperature Sensor; Value: MAX1619; Manufacturer Part Num: *
pins: 1 VCC (power), 2 GND (power), 3 DXP, 4 DXN, 5 NC, 6 ADD1 (in), 7 GND (power), 8 GND (power), 9 ~{OVERT} (out), 10 ADD0 (in), 11 ~{ALERT} (out), 12 SMBDATA (io), 13 NC, 14 SMBCLK (in), 15 ~{STBY} (in), 16 NC

## MIC5309
designator U?
Low Vin/Vout 300mA High PSRR ULDO with Ultra-Low IQ; Manufacturer Part Num: MIC5309-1.2YMT; Value: MIC5309
footprint DFN-6
pins: 1 BIAS (power), 2 GND (power), 3 VIN (power), 4 VOUT (power), 5 EN, 6 BYP, 7 EP (power)

## MP1495
designator U?
High Efficiency 3A, 16V, 500kHz Synchronous Step Down Converter; Manufacturer Part Num: MP1495SGJ-Z; Value: MP1495
footprint TSOT23-8 (MP1495, MP2143)
pins: 1 AAM, 2 IN, 3 SW, 4 GND, 5 BST, 6 EN/SYNC, 7 VCC, 8 FB

## MP8759
designator U?
26V, 8A, Low I Q , High-Current,  Synchronous, Step-Down Converter; Manufacturer Part Num: MP8759GD; Value: MP8759
pins: 1 VIN, 2 PGND, 3 PG, 4 NC, 5 VOUT, 6 MODE, 7 SW, 8 BST, 9 VCC, 10 AGND, 11 FB, 12 EN

## MPQ8643
designator U?
16V, 20A, Configurable-Frequency, Synchronous Step-Down Converter; Value: MPQ8643; Manufacturer Part Num: *
pins: 1 BST (power), 2 AGND (power), 3 CS (power), 4 MODE, 5 TRK/REF (power), 6 RGND (power), 7 FB (power), 8 EN (in), 9 PGOOD (power), 10 VIN (power), 11 PGND (power), 12 PGND (power), 13 PGND (power), 14 PGND (power), 15 PGND (power), 16 PGND (power), 17 PGND (power), 18 PGND (power), 19 VCC (power), 20 SW (power), 21 VIN (power)

## MT25QU
designator U?, comment MT25QU256
Micron Serial NOR Flash Memory; Manufacturer Part Num: MT25QU256ABA8E12-1SIT; Value: MT25QU256
pins: A2 NC1, A3 NC2, A4 NC3, A5 NC4, B1 NC5, B2 C (in), B3 VSS (power), B4 VCC (power), B5 NC6, C1 NC7, C2 S# (in), C3 NC8, C4 DQ2 (io), C5 NC9, D1 NC10, D2 DQ1 (io), D3 DQ0 (io), D4 DQ3 (io), D5 NC11, E1 NC12, E2 NC13, E3 NC14, E4 NC15, E5 NC16

## MT41K128M16JT
designator U?, comment MT41K128M16
2Gb: x16 DDR3 SDRAM; Manufacturer Part Num: MT41K128M16JT-125; Value: MT41K128M16
footprint FBGA96 (FBGA, 96-Balls, Body 14x9.5mm, Pitch 0.8mm)
pins: A1 VDDQ (power), A2 DQ13 (io), A3 DQ15 (io), A7 DQ12 (io), A8 VDDQ (power), A9 VSS (power), B1 VSSQ (power), B2 VDD (power), B3 VSS (power), B7 UDQS# (io), B8 DQ14 (io), B9 VSSQ (power), C1 VDDQ (power), C2 DQ11 (io), C3 DQ9 (io), C7 UDQS (io), C8 DQ10 (io), C9 VDDQ (power), D1 VSSQ (power), D2 VDDQ (power), D3 UDM (in), D7 DQ8 (io), D8 VSSQ (power), D9 VDD (power), E1 VSS (power), E2 VSSQ (power), E3 DQ0 (io), E7 LDM (in), E8 VSSQ (power), E9 VDDQ (power), F1 VDDQ (power), F2 DQ2 (io), F3 LDQS (io), F7 DQ1 (io), F8 DQ3 (io), F9 VSSQ (power), G1 VSSQ (power), G2 DQ6 (io), G3 LDQS# (io), G7 VDD (power), G8 VSS (power), G9 VSSQ (power), H1 VREFDQ (power), H2 VDDQ (power), H3 DQ4 (io), H7 DQ7 (io), H8 DQ5 (io), H9 VDDQ (power), J2 VSS (power), J3 RAS# (in), J7 CK (in), J8 VSS (power), K1 ODT (in), K2 VDD (power), K3 CAS# (in), K7 CK# (in), K8 VDD (power), K9 CKE (in), L2 CS# (in), L3 WE# (in), L7 A10/AP (in), L8 ZQ, M1 VSS (power), M2 BA0 (in), M3 BA2 (in), M8 VREFCA (power), M9 VSS (power), N1 VDD (power), N2 A3 (in), N3 A0 (in), N7 A12/BC# (in), N8 BA1 (in), N9 VDD (power), P1 VSS (power), P2 A5 (in), P3 A2 (in), P7 A1 (in), P8 A4 (in), P9 VSS (power), R1 VDD (power), R2 A7 (in), R3 A9 (in), R7 A11 (in), R8 A6 (in), R9 VDD (power), T1 VSS (power), T2 RESET# (in), T3 A13 (in), T7 A14 (in), T8 A8 (in), T9 VSS (power)

## SFP+ Connector
designator CN?
SFP+ Host Connector, Z-Axis Pluggable, Right-Angle, Surface Mount, 20 Circuits , and EMI Cage; Value: SFP+ Connector; Manufacturer Part Num: *
pins: 1 VEET (power), 2 TX_FAULT (out), 3 TX_DISABLE (in), 4 SDA (io), 5 SCL (in), 6 MOD_ABS (out), 7 RS0, 8 RX_LOS (out), 9 RS1, 10 VEER (power), 11 VEER (power), 12 RD_N (out), 13 RD_P (out), 14 VEER (power), 15 VCCR (power), 16 VCCT (power), 17 VEET (power), 18 TD_P (in), 19 TD_N (in), 20 VEET (power), 21 CAGE (power), 22 CAGE (power), 23 CAGE (power), 24 CAGE (power), 25 CAGE (power), 26 CAGE (power), 27 CAGE (power), 28 CAGE (power), 29 CAGE (power), 30 CAGE (power), 31 CAGE (power), 32 CAGE (power), 33 CAGE (power), 34 CAGE (power), 35 CAGE (power), 36 CAGE (power), 37 CAGE (power), 38 CAGE (power), 39 CAGE (power), 40 CAGE (power)

## Si570
designator U?
10 MHZ TO 1.4 GHZ I2C PROGRAMMABLE XO/VCXO; Value: Si570; Manufacturer Part Num: *
pins: 1 NC, 2 OE, 3 GND (power), 4 CLK+, 5 CLK-, 6 VDD (power), 7 SDA, 8 SCL

## Si4204DY
designator U?
Value: Si4204DY
part A pins: 3 S2, 4 G2, 5 D2, 6 D2
part B pins: 1 S1, 2 G1, 7 D1, 8 D1

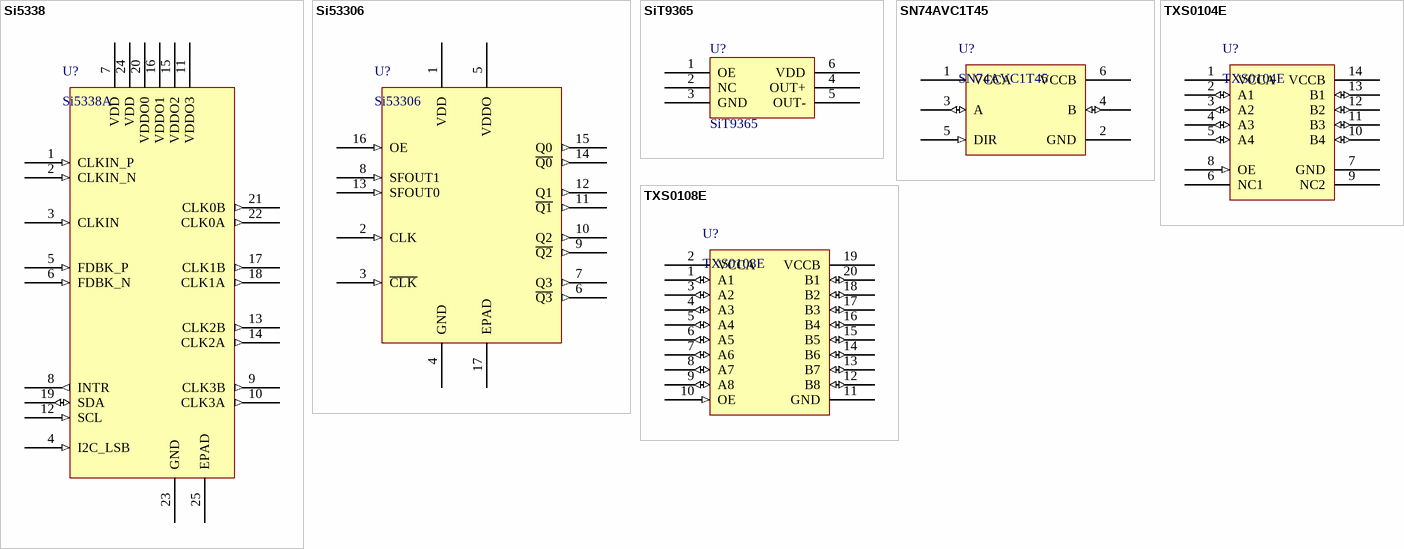
[diagram p5: symbols Si5338 to TXS0108E]

## Si5338
designator U?, comment Si5338A
I2C-Programmable Any-Frequency, Any-Output Quad Clock Generator; Value: Si5338A; Manufacturer Part Num: *
pins: 1 CLKIN_P (in), 2 CLKIN_N (in), 3 CLKIN (in), 4 I2C_LSB (in), 5 FDBK_P (in), 6 FDBK_N (in), 7 VDD (power), 8 INTR (out), 9 CLK3B (out), 10 CLK3A (out), 11 VDDO3 (power), 12 SCL (in), 13 CLK2B (out), 14 CLK2A (out), 15 VDDO2 (power), 16 VDDO1 (power), 17 CLK1B (out), 18 CLK1A (out), 19 SDA (io), 20 VDDO0 (power), 21 CLK0B (out), 22 CLK0A (out), 23 GND (power), 24 VDD (power), 25 EPAD (power)

## Si53306
designator U?
Ultra-Low Additive Jitter Fanout Clock Buffer; Manufacturer Part Num: Si53306-B-GM; Value: Si53306
pins: 1 VDD (power), 2 CLK (in), 3 ~{CLK} (in), 4 GND (power), 5 VDDO (power), 6 ~{Q3} (out), 7 Q3 (out), 8 SFOUT1 (in), 9 ~{Q2} (out), 10 Q2 (out), 11 ~{Q1} (out), 12 Q1 (out), 13 SFOUT0 (in), 14 ~{Q0} (out), 15 Q0 (out), 16 OE (in), 17 EPAD (power)

## SiT9365
designator U?
Standard Frequency Ultra-low Jitter Differential Oscillator; Value: SiT9365; Manufacturer Part Num: *
pins: 1 OE, 2 NC, 3 GND, 4 OUT+, 5 OUT-, 6 VDD

## SN74AVC1T45
designator U?
Single-Bit Dual-Supply Bus Transceiver With Configurable Voltage Translation; Value: SN74AVC1T45; Manufacturer Part Num: *
pins: 1 VCCA (power), 2 GND (power), 3 A (io), 4 B (io), 5 DIR (in), 6 VCCB (power)

## TXS0104E
designator U?
4-Bit Bidirectional Voltage-Level Translator for Open-Drain and Push-Pull Applications; Value: TXS0104E; Manufacturer Part Num: *
pins: 1 VCCA (power), 2 A1 (io), 3 A2 (io), 4 A3 (io), 5 A4 (io), 6 NC1, 7 GND (power), 8 OE (in), 9 NC2, 10 B4 (io), 11 B3 (io), 12 B2 (io), 13 B1 (io), 14 VCCB (power)

## TXS0108E
designator U?
8-Bit Bidirectional Voltage-Level Translator for Open-Drain and Push-Pull Applications; Manufacturer Part Num: TXS0108EPWR; Value: TXS0108E
pins: 1 A1 (io), 2 VCCA (power), 3 A2 (io), 4 A3 (io), 5 A4 (io), 6 A5 (io), 7 A6 (io), 8 A7 (io), 9 A8 (io), 10 OE (in), 11 GND (power), 12 B8 (io), 13 B7 (io), 14 B6 (io), 15 B5 (io), 16 B4 (io), 17 B3 (io), 18 B2 (io), 19 VCCB (power), 20 B1 (io)